# Altium schematic symbol library Harry_Potter_Linear_Technology.SchLib: 2 symbols
Pins are listed as number, name and electrical type; pins without a type are passive.

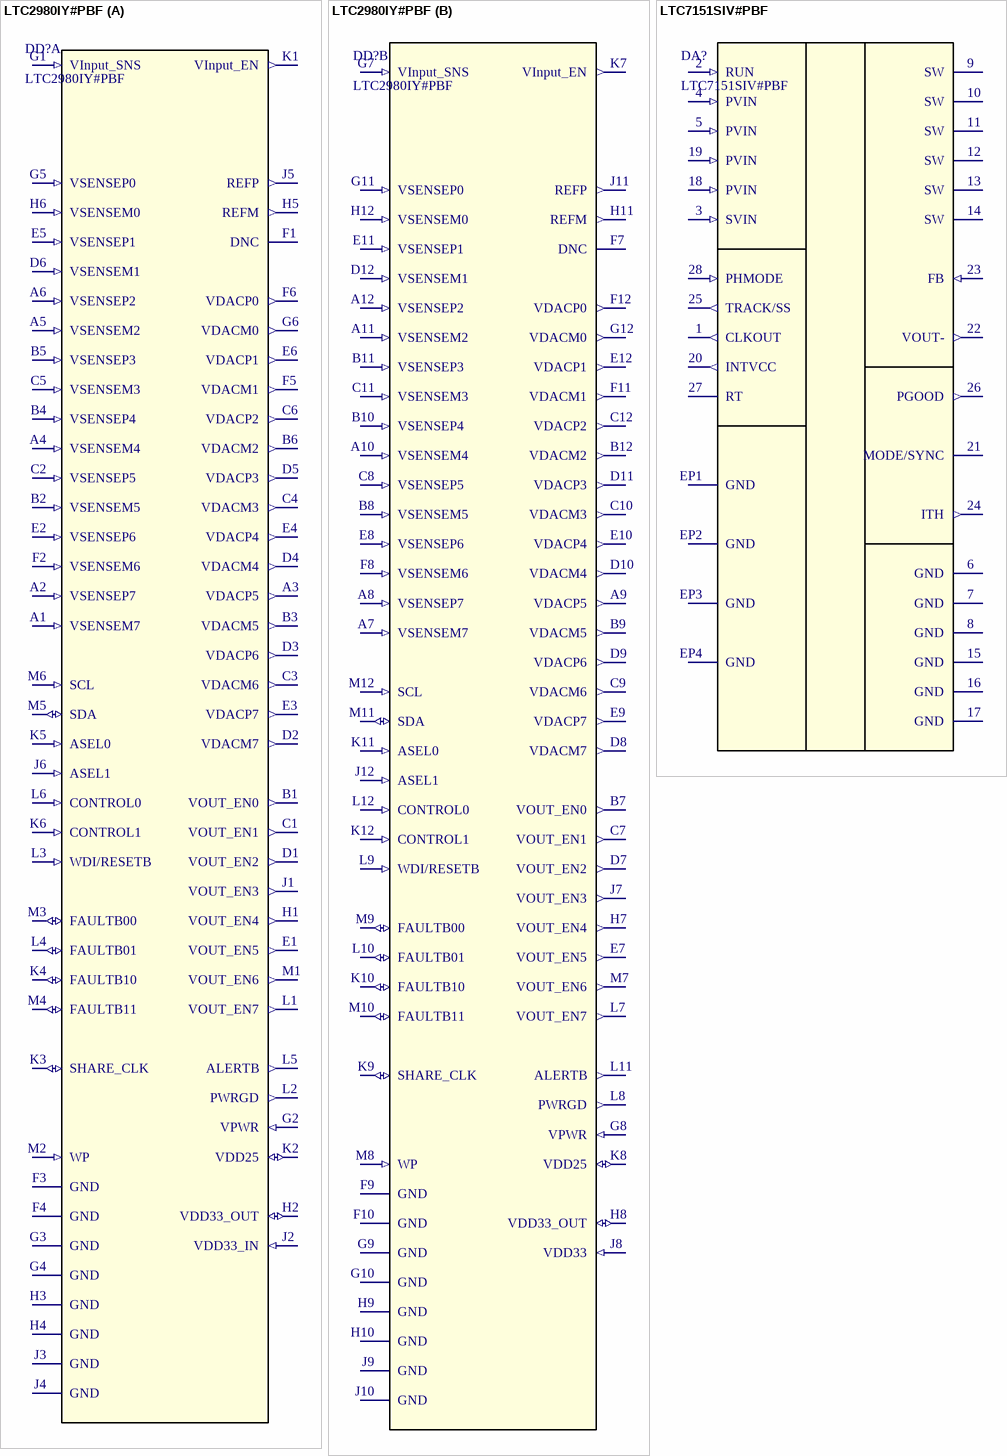
[diagram p0: symbols LTC2980IY#PBF to LTC7151SIV#PBF]

## LTC2980IY#PBF
designator DD?
16 КАНАЛЬНАЯ СИСТЕМА УПРАВЛЕНИЯ ПИТАНИЕМ; Manufacturing: Linear Technology; Op Temp: -40 to 105; Device Marking: LTC2980Y; Package: Y144AH; PartNumber: LTC2980IY#PBF
footprint Y144AH (BGA, 144-Leads, Body 12,00x12,00mmx1,34mm, Pitch 1,00mm)
part A pins: A1 VSENSEM7 (in), A2 VSENSEP7 (in), A3 VDACP5 (out), A4 VSENSEM4 (in), A5 VSENSEM2 (in), A6 VSENSEP2 (in), B1 VOUT_EN0 (out), B2 VSENSEM5 (in), B3 VDACM5 (out), B4 VSENSEP4 (in), B5 VSENSEP3 (in), B6 VDACM2 (out), C1 VOUT_EN1 (out), C2 VSENSEP5 (in), C3 VDACM6 (out), C4 VDACM3 (out), C5 VSENSEM3 (in), C6 VDACP2 (out), D1 VOUT_EN2 (out), D2 VDACM7 (out), D3 VDACP6 (out), D4 VDACM4 (out), D5 VDACP3 (out), D6 VSENSEM1 (in), E1 VOUT_EN5 (out), E2 VSENSEP6 (in), E3 VDACP7 (out), E4 VDACP4 (out), E5 VSENSEP1 (in), E6 VDACP1 (out), F1 DNC (hiz), F2 VSENSEM6 (in), F3 GND (power), F4 GND (power), F5 VDACM1 (out), F6 VDACP0 (out), G1 VInput_SNS (in), G2 VPWR (in), G3 GND (power), G4 GND (power), G5 VSENSEP0 (in), G6 VDACM0 (out), H1 VOUT_EN4 (out), H2 VDD33_OUT (io), H3 GND (power), H4 GND (power), H5 REFM (out), H6 VSENSEM0 (in), J1 VOUT_EN3 (out), J2 VDD33_IN (in), J3 GND (power), J4 GND (power), J5 REFP (out), J6 ASEL1 (in), K1 VInput_EN (out), K2 VDD25 (io), K3 SHARE_CLK (io), K4 FAULTB10 (io), K5 ASEL0 (in), K6 CONTROL1 (in), L1 VOUT_EN7 (out), L2 PWRGD (out), L3 WDI/RESETB (in), L4 FAULTB01 (io), L5 ALERTB (out), L6 CONTROL0 (in), M1 VOUT_EN6 (out), M2 WP (in), M3 FAULTB00 (io), M4 FAULTB11 (io), M5 SDA (io), M6 SCL (in)
part B pins: A7 VSENSEM7 (in), A8 VSENSEP7 (in), A9 VDACP5 (out), A10 VSENSEM4 (in), A11 VSENSEM2 (in), A12 VSENSEP2 (in), B7 VOUT_EN0 (out), B8 VSENSEM5 (in), B9 VDACM5 (out), B10 VSENSEP4 (in), B11 VSENSEP3 (in), B12 VDACM2 (out), C7 VOUT_EN1 (out), C8 VSENSEP5 (in), C9 VDACM6 (out), C10 VDACM3 (out), C11 VSENSEM3 (in), C12 VDACP2 (out), D7 VOUT_EN2 (out), D8 VDACM7 (out), D9 VDACP6 (out), D10 VDACM4 (out), D11 VDACP3 (out), D12 VSENSEM1 (in), E7 VOUT_EN5 (out), E8 VSENSEP6 (in), E9 VDACP7 (out), E10 VDACP4 (out), E11 VSENSEP1 (in), E12 VDACP1 (out), F7 DNC (hiz), F8 VSENSEM6 (in), F9 GND (power), F10 GND (power), F11 VDACM1 (out), F12 VDACP0 (out), G7 VInput_SNS (in), G8 VPWR (in), G9 GND (power), G10 GND (power), G11 VSENSEP0 (in), G12 VDACM0 (out), H7 VOUT_EN4 (out), H8 VDD33_OUT (io), H9 GND (power), H10 GND (power), H11 REFM (out), H12 VSENSEM0 (in), J7 VOUT_EN3 (out), J8 VDD33 (in), J9 GND (power), J10 GND (power), J11 REFP (out), J12 ASEL1 (in), K7 VInput_EN (out), K8 VDD25 (io), K9 SHARE_CLK (io), K10 FAULTB10 (io), K11 ASEL0 (in), K12 CONTROL1 (in), L7 VOUT_EN7 (out), L8 PWRGD (out), L9 WDI/RESETB (in), L10 FAULTB01 (io), L11 ALERTB (out), L12 CONTROL0 (in), M7 VOUT_EN6 (out), M8 WP (in), M9 FAULTB00 (io), M10 FAULTB11 (io), M11 SDA (io), M12 SCL (in)

## LTC7151SIV#PBF
designator DA?
МАЛОШУМЯЩИЙ РЕГУЛЯТОР; Manufacturing: Linear Technology; Op Temp: -40 to 125; Device Marking: 7151S; Package: LQFN; PartNumber: LTC7151SIV#PBF
footprint LQFN (QFN, 28-Leads, Body 2,00x2,50mm, Pitch 0,50mm, Thermal Pad 3,35x2,55mm, IPC Medium Density)
pins: 1 CLKOUT (out), 2 RUN (in), 3 SVIN (in), 4 PVIN (in), 5 PVIN (in), 6 GND (power), 7 GND (power), 8 GND (power), 9 SW, 10 SW, 11 SW, 12 SW, 13 SW, 14 SW, 15 GND (power), 16 GND (power), 17 GND (power), 18 PVIN (in), 19 PVIN (in), 20 INTVCC (out), 21 MODE/SYNC, 22 VOUT- (out), 23 FB (in), 24 ITH (out), 25 TRACK/SS (out), 26 PGOOD (out), 27 RT, 28 PHMODE (in), EP1 GND (power), EP2 GND (power), EP3 GND (power), EP4 GND (power)